# Altium footprint library Abracon.PcbLib: 1 footprints
Each footprint in its own frame and in the unit in brackets; x right, y up, seen from the top. Pads: shape width x height; smd on the part's side, far side on the other; paste and mask are expansions set on the pad; w line width, h text height; cw(c..) or ccw(c..) is an arc to the next point about the centre after c.
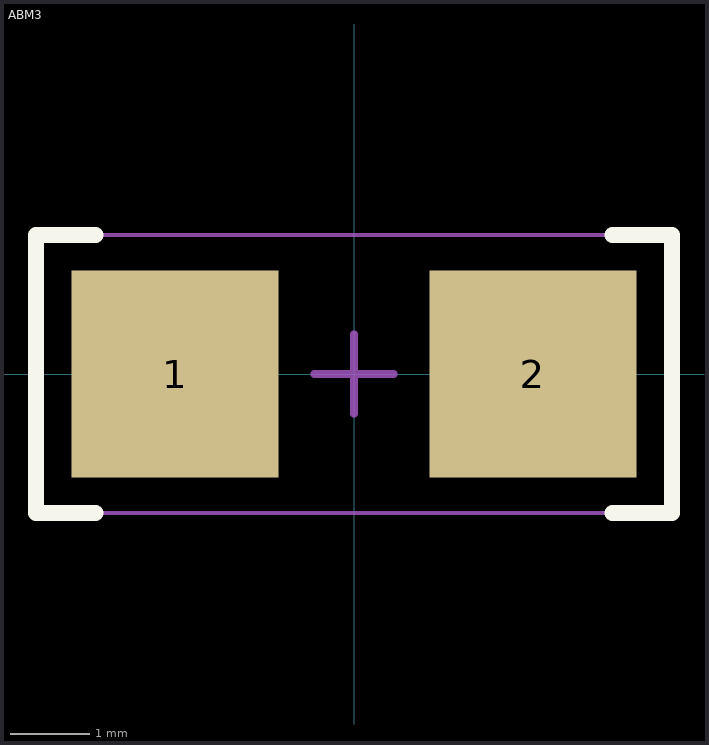
[diagram p0: the footprint, top view; thin cyan lines are the x and y axes]

## ABM3 [mm] "Crystal, 5x3.2mm"
pads (2):
  rect 2.6x2.6 smd: 1(-2.25,0) 2(2.25,0)
Top Overlay:
  lines w0.2: -3.25,-1.75 -4,-1.75 -4,1.75 -3.25,1.75 ; 3.25,-1.75 4,-1.75 4,1.75 3.25,1.75
Mechanical 15:
  lines w0.05: -4,-1.75 -4,1.75 4,1.75 4,-1.75 -4,-1.75
  lines w0.1: -0.5,0 0.5,0 ; 0,-0.5 0,0.5
3D body: height 1.5, standoff 0.1, extent -3,-1.75 3,1.75